# EAGLE library part 7PIN_SPI_OLED (library zephod-components)
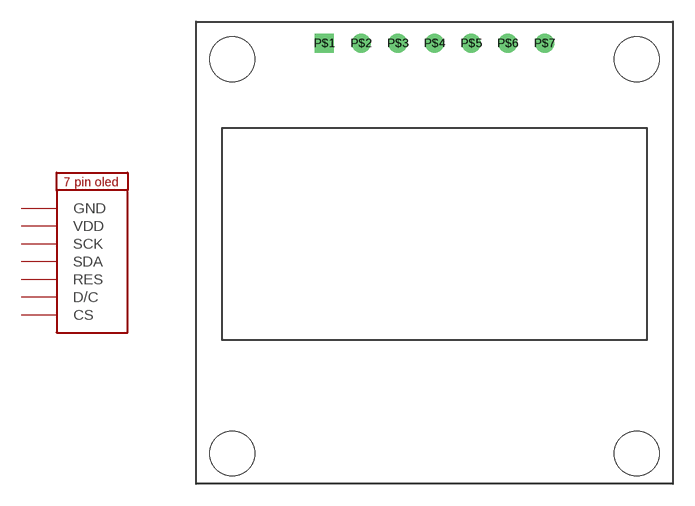
[diagram p18: symbol with the pads of 1.3"_7PIN_OLED; footprint 1.3"_7PIN_OLED]

Designator prefix OLED

## 7PIN_SPI_OLED1.3"  [1.3"_7PIN_OLED]
P$1  GND
P$2  VDD
P$3  SCK
P$4  SDA
P$5  RES
P$6  D/C
P$7  CS

## Footprint 1.3"_7PIN_OLED (pad centres in mm)
drill 0.8 square: P$1 -7.62,-1.5
drill 0.8: P$2 -5.08,-1.5; P$3 -2.54,-1.5; P$4 0,-1.5; P$5 2.54,-1.5; P$6 5.08,-1.5; P$7 7.62,-1.5
hole 3.1 at -14,-2.6
hole 3.1 at 14,-2.6
hole 3.1 at 14,-29.9
hole 3.1 at -14,-29.9